# Altium schematic symbol library LTM8025IY#PBF.SchLib: 1 symbol
Pins are listed as number, name and electrical type; pins without a type are passive.

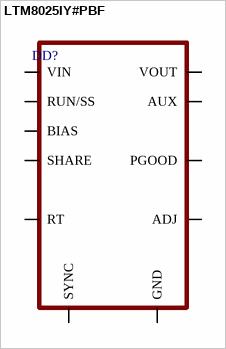
[diagram p0: symbol LTM8025IY#PBF]

## LTM8025IY#PBF
designator DD?
pins: ADJ, AUX, BIAS, GND, PGOOD, RT, RUN/SS, SHARE, SYNC, VIN, VOUT